# Altium footprint library 按键.PcbLib: 18 footprints (part 1 of 2)
Each footprint in its own frame and in the unit in brackets; x right, y up, seen from the top. Pads: shape width x height; smd on the part's side, far side on the other; paste and mask are expansions set on the pad; w line width, h text height; cw(c..) or ccw(c..) is an arc to the next point about the centre after c.
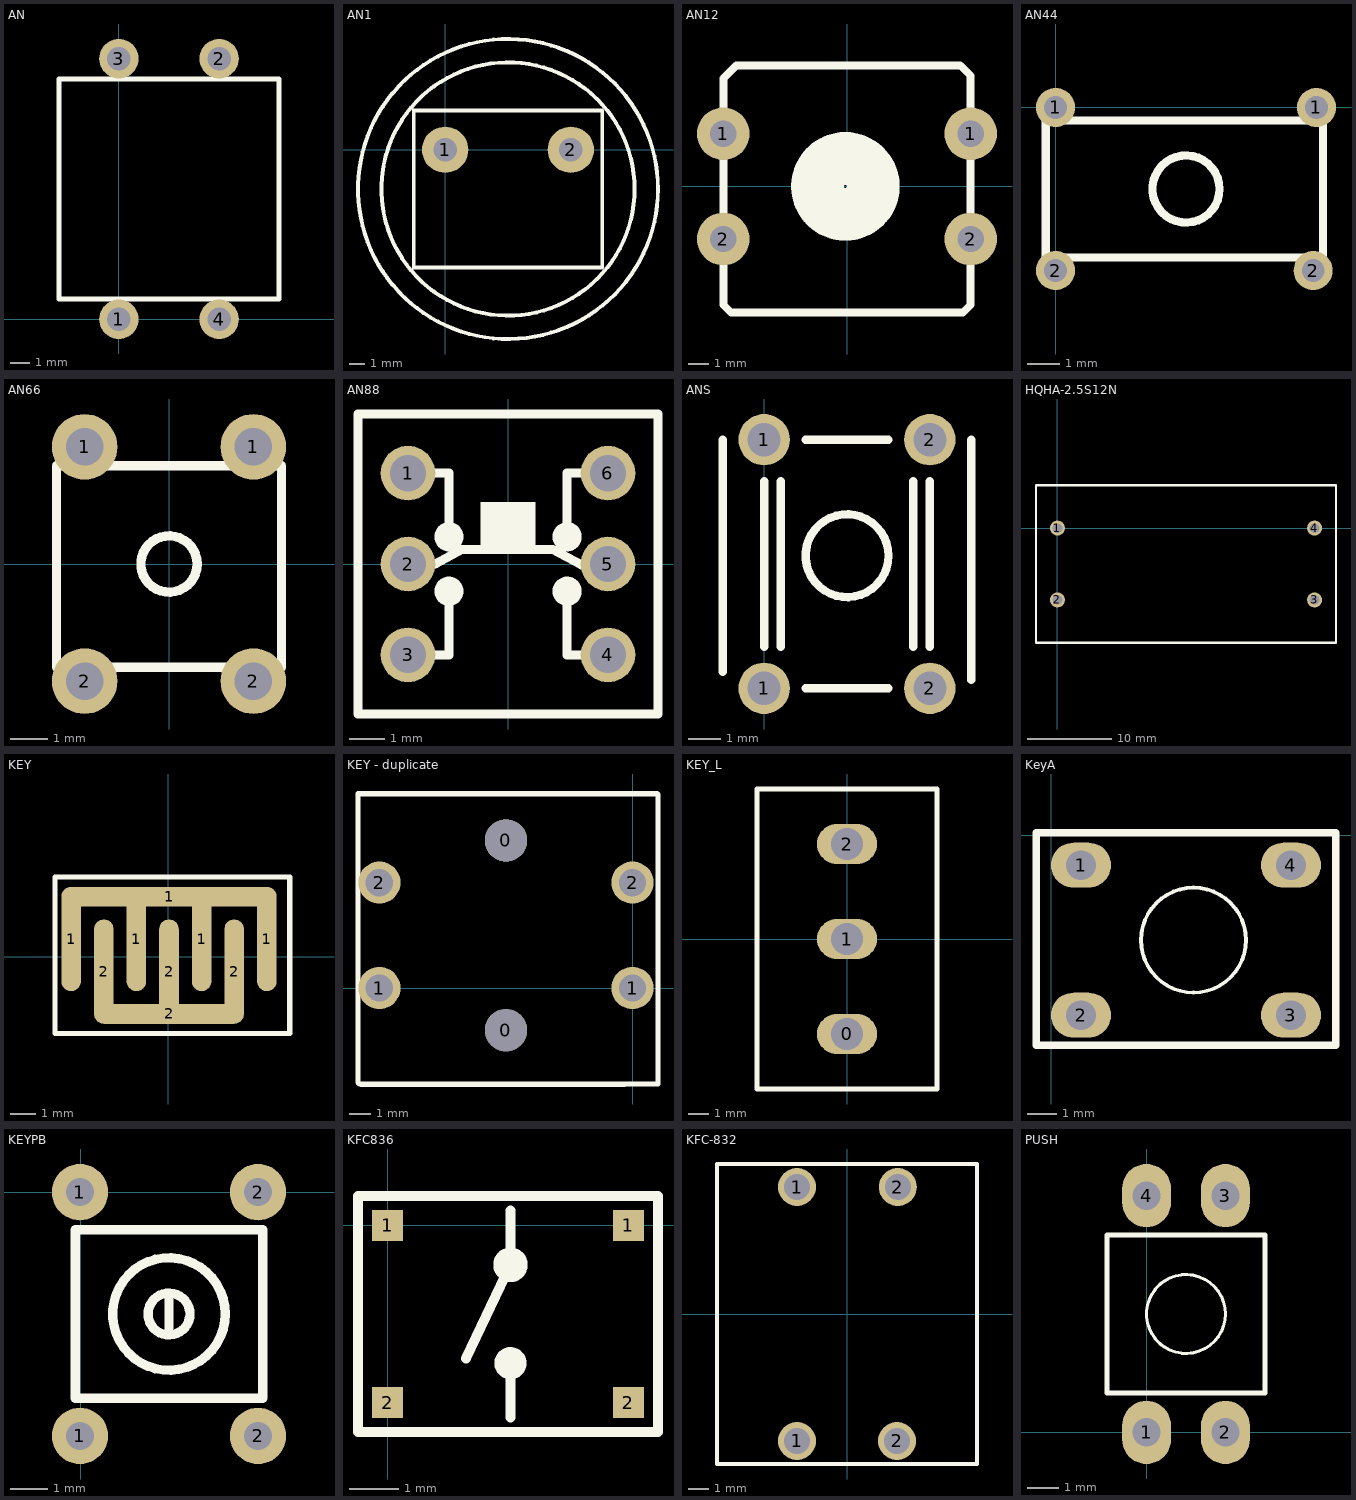
[diagram p0: the footprints below, top view; thin cyan lines are the x and y axes]

## AN [mm]
pads (4):
  round 2 hole 1.2: 1(0,0) 2(5.08,13.208) 3(0,13.208) 4(5.08,0)
Top Overlay:
  lines w0.254: -3.048,1.016 8.128,1.016 8.128,12.192 -3.048,12.192 -3.048,1.016

## AN1 [mm]
pads (2):
  round 3 hole 1.5: 1(0,0) 2(8.128,0)
Top Overlay:
  circle w0.254: c4.064,-2.54 r8.191
  circle w0.254: c4.064,-2.54 r9.705
  lines w0.254: -2.032,-7.62 -2.032,2.54 10.16,2.54 10.16,-7.62 -2.032,-7.62

## AN12 [mil]
pads (4):
  round 100 hole 50: 1(-235,100) 1(235,100) 2(-235,-100) 2(235,-100)
Top Overlay:
  circle w100: c-3.15,0 r53.15
  lines w15: -235,-225 -235,205 -210,230 215,230 235,210 235,-225 220,-240 -220,-240 -235,-225

## AN44 [mm]
pads (4):
  round 1.2 hole 0.7: 1(0,0) 1(8,0) 2(0,-5) 2(7.9,-5)
Top Overlay:
  circle w0.254: c4,-2.5 r1.03
  lines w0.254: -0.3,-4.6 -0.3,-0.4 8.2,-0.4 8.2,-4.6 -0.3,-4.6

## AN66 [mil]
pads (4):
  round 70 hole 40: 1(-90,125) 1(90,125) 2(-90,-125) 2(90,-125)
Top Overlay:
  circle w10: c0,0 r30
  lines w10: -120,-110 -120,105 120,105 120,-110 -120,-110

## AN88 [mil]
pads (6):
  round 60 hole 40: 1(-110,100) 2(-110,0) 3(-110,-100) 4(110,-100) 5(110,0) 6(110,100)
Top Overlay:
  circle w18: c-65,30 r7.07
  circle w18: c65,30 r7.07
  circle w18: c65,-30 r7.07
  circle w18: c-65,-30 r7.07
  rectangle: -30,16 30,68
  lines w10: -110,-100 -65,-100 -65,-40 ; -110,0 -80,0 -51,16 49,16 81,-1 109,-1 110,0 ; -110,100 -65,100 -65,30 ; 65,-40 65,-100 110,-100 ; 65,40 65,100 110,100 ; -165,-165 -165,165 165,165 165,-165 -165,-165

## ANS [mil]
pads (4):
  round 62 hole 40: 1(0,100) 1(0,400) 2(200,100) 2(200,400)
Top Overlay:
  circle w10: c100,260 r50
  lines w10: -50,120 -50,400 ; 0,150 0,350 ; 20,150 20,350 ; 50,100 150,100 ; 50,400 150,400 ; 180,150 180,350 ; 200,150 200,350 ; 250,110 250,400

## HQHA-2.5S12N [mil]
pads (4):
  round 70 hole 45: 1(0,0) 2(0,-335) 3(1200,-335) 4(1200,0)
Top Overlay:
  lines w10: -100,-535 1300,-535 1300,200 -100,200 -100,-535

## KEY [mil]
pads (9):
  oval 30x160 smd: 1(-148.82,27.56) 1(-48.82,27.56) 1(51.18,27.56) 1(151.18,27.56) 2(-98.82,-22.44) 2(1.18,-22.44) 2(101.18,-22.44)
  oval 330x30 smd: 1(1.18,92.56)
  oval 230x30 smd: 2(1.18,-87.44)
Top Overlay:
  lines w8: -173.82,-117.44 186.18,-117.44 186.18,122.56 -173.82,122.56 -173.82,-117.44

## KEY - duplicate [mm]
pads (6):
  round 2 hole 2: 0(-6,-2) 0(-6,7)
  round 2 hole 1.3: 1(-12,0) 1(0,0) 2(-12,5) 2(0,5)
Top Overlay:
  lines w0.254: -12.94,-4.55 -13.016,-4.474 -13.016,9.216 0.7,9.216 1.157,9.216 1.208,9.166 1.208,-4.55 -0.824,-4.55 ; -12.876,-4.567 -0.379,-4.567

## KEY_L [mm]
pads (3):
  oval 3x2 hole 1.6: 0(0,-4.75) 1(0,0) 2(0,4.75)
Top Overlay:
  lines w0.254: -4.5,-7.5 -4.5,0 -4.5,7.5 4.5,7.5 4.5,-7.5 -4.5,-7.5

## KeyA [mil]
pads (4):
  oval 80x60 hole 39.37: 1(40,-40) 2(40,-240) 3(320,-240) 4(320,-40)
Top Overlay:
  circle w5: c190,-140 r70
  lines w10: -20,-280 140,-280 380,-280 380,-240 380,2.99 371.02,2.99 8.82,2.99 -20,2.99 -20,0 -20,-240 -20,-280

## KEYPB [mil]
pads (4):
  round 60 hole 30: 1(-1,-260) 1(-1,0) 2(189,-260) 2(189,0)
Top Overlay:
  circle w10: c94,-130 r22.36
  circle w10: c94,-130 r60
  lines w10: 94,-150 94,-110 ; -6,-220 194,-220 194,-40 -6,-40 -6,-220

## KFC836 [mm]
pads (4):
  rect 0.635x0.635 smd: 1(0,0) 1(4.9,0) 2(0,-3.6) 2(4.9,-3.6)
Top Overlay:
  circle w0.254: c2.5,-0.8 r0.224
  circle w0.254: c2.5,-2.8 r0.2
  lines w0.203: 1.6,-2.7 2.5,-0.8 2.5,0.3 ; 2.5,-3.9 2.5,-2.8 ; -0.6,-4.2 5.5,-4.2 5.5,0.6 -0.6,0.6 -0.6,-4.2

## KFC-832 [mm] "微动开关"
pads (4):
  round 1.9 hole 1.3: 1(-2.5,-6.35) 1(-2.5,6.35) 2(2.5,-6.35) 2(2.54,6.35)
Top Overlay:
  lines w0.203: -6.5,-7.5 -6.5,7.5 6.5,7.5 6.5,-7.5 -6.5,-7.5

## PUSH [mil]
pads (4):
  oval 62x80 hole 36: 1(0,0) 2(100,0) 3(100,300) 4(0,300)
Top Overlay:
  circle w3.94: c50,150 r50
  lines w5.91: -50,50 -50,150 -50,250 150,250 150,150 150,50 -50,50